# EAGLE library part DAC_12S_10P (library !GPLIB_ACTIVE)
ESD and Surge protection diodes TVS 4 line bi-directional DFN2510-10
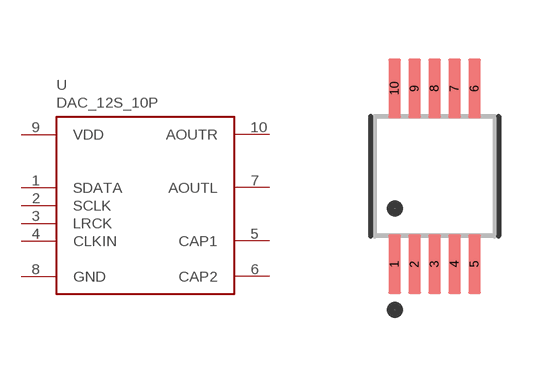
[diagram p24: symbol with the pads of SOP50P490X110-10N; footprint SOP50P490X110-10N]

Designator prefix U

## DAC_12S_10P_ES7144LV  [SOP50P490X110-10N]
1  SDATA  in
2  SCLK  in
3  LRCK  in
4  CLKIN  in
5  CAP1  out
6  CAP2  out
7  AOUTL  out
8  GND  pwr
9  VDD  pwr
10  AOUTR  out

## DAC_12S_10P_GC4344  [SOP50P490X110-10N]
Pads as for SOP50P490X110-10N

## Footprint SOP50P490X110-10N (pad centres in mm)
TSSOP10. TSSOP 10P 0.5mm Pitch
smd 0.32 x 1.5: 1 -1,-2.2; 2 -0.5,-2.2; 3 0,-2.2; 4 0.5,-2.2; 5 1,-2.2; 6 1,2.2; 7 0.5,2.2; 8 0,2.2; 9 -0.5,2.2; 10 -1,2.2